# Altium footprint library 2.03-TSSOP封装.PcbLib: 49 footprints (part 4 of 4)
Each footprint in its own frame and in the unit in brackets; x right, y up, seen from the top. Pads: shape width x height; smd on the part's side, far side on the other; paste and mask are expansions set on the pad; w line width, h text height; cw(c..) or ccw(c..) is an arc to the next point about the centre after c.
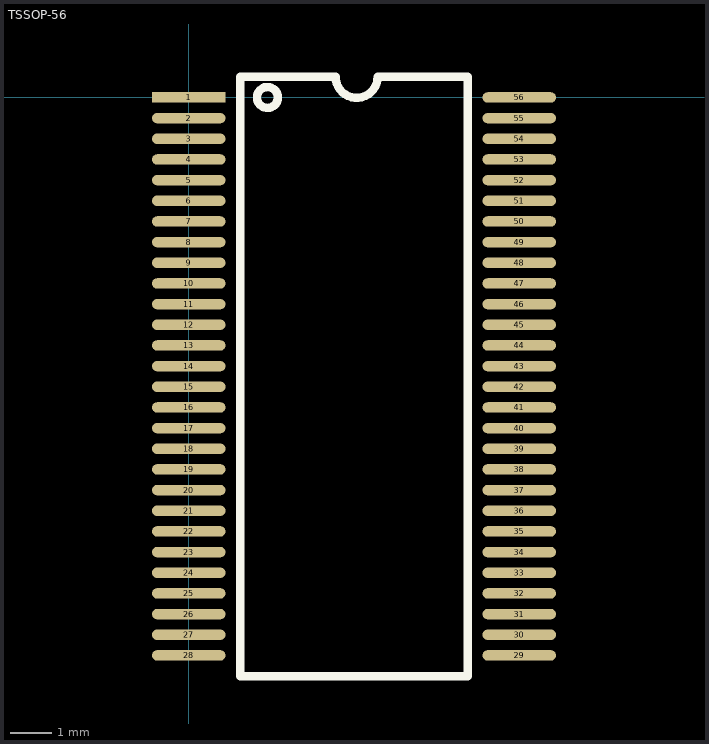
[diagram p3: the footprint, top view; thin cyan lines are the x and y axes]

## TSSOP-56 [mil]
pads (56):
  rect 70x10 smd: 1(0,0)
  oval 70x10 smd: 2(0,-19.68) 3(0,-39.37) 4(0,-59.05) 5(0,-78.74) 6(0,-98.42) 7(0,-118.11) 8(0,-137.79) 9(0,-157.48) 10(0,-177.16) 11(0,-196.85) 12(0,-216.53) 13(0,-236.22) 14(0,-255.91) 15(0,-275.59) 16(0,-295.28) 17(0,-314.96) 18(0,-334.65) 19(0,-354.33) 20(0,-374.02) 21(0,-393.7) 22(0,-413.39) 23(0,-433.07) 24(0,-452.76) 25(0,-472.44) 26(0,-492.13) 27(0,-511.81) 28(0,-531.5) 29(314.96,-531.5) 30(314.96,-511.81) 31(314.96,-492.13) 32(314.96,-472.44) 33(314.96,-452.76) 34(314.96,-433.07) 35(314.96,-413.39) 36(314.96,-393.7) 37(314.96,-374.02) 38(314.96,-354.33) 39(314.96,-334.65) 40(314.96,-314.96) 41(314.96,-295.28) 42(314.96,-275.59) 43(314.96,-255.91) 44(314.96,-236.22) 45(314.96,-216.53) 46(314.96,-196.85) 47(314.96,-177.16) 48(314.96,-157.48) 49(314.96,-137.79) 50(314.96,-118.11) 51(314.96,-98.42) 52(314.96,-78.74) 53(314.96,-59.05) 54(314.96,-39.37) 55(314.96,-19.68) 56(314.96,0)
Top Overlay:
  circle w8: c75,0 r10
  lines w8: 49.21,-551.18 49.21,19.68 140,19.68 ccw(c160,19.68) 180,19.68 265.75,19.68 265.75,-551.18 49.21,-551.18